# Altium footprint library Modulos.PcbLib: 4 footprints
Each footprint in its own frame and in the unit in brackets; x right, y up, seen from the top. Pads: shape width x height; smd on the part's side, far side on the other; paste and mask are expansions set on the pad; w line width, h text height; cw(c..) or ccw(c..) is an arc to the next point about the centre after c.
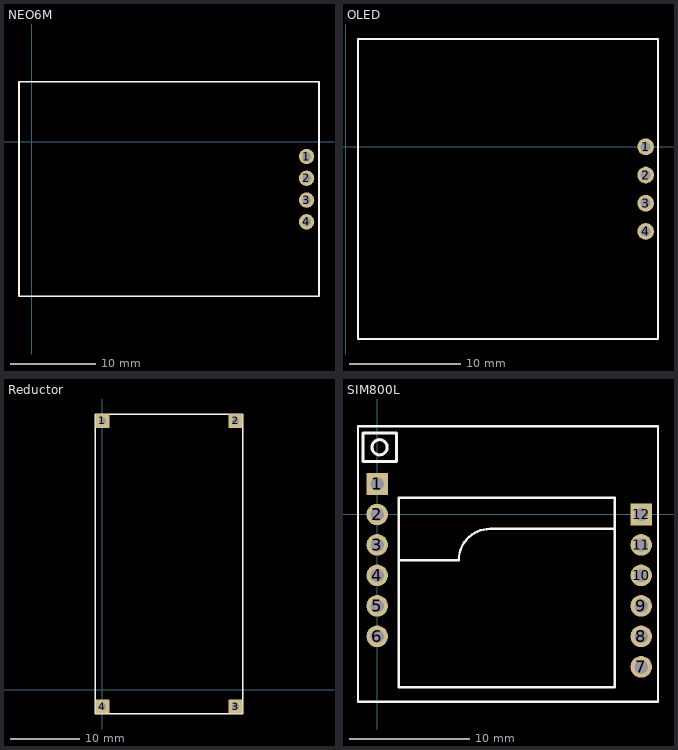
[diagram p0: the footprints below, top view; thin cyan lines are the x and y axes]

## NEO6M [mm]
pads (4):
  round 1.8 hole 1: 1(32.05,-1.71) 2(32.05,-4.25) 3(32.05,-6.79) 4(32.05,-9.33)
Top Overlay:
  lines w0.2: -1.5,7 -1.5,-18 33.5,-18 33.5,7
  lines w0.203: -1.5,7 33.5,7

## OLED [mm]
pads (4):
  round 1.5 hole 0.9: 1(27,0) 2(27,-2.54) 3(27,-5.08) 4(27,-7.62)
Top Overlay:
  lines w0.2: 1.1,9.7 1.1,-17.3 28.11,-17.3 28.11,9.7
  lines w0.203: 1.1,9.7 28.11,9.7

## Reductor [mm]
pads (4):
  rect 2x2 hole 1: 1(0,38.6) 2(19.1,38.6) 3(19.1,-2.4) 4(0,-2.4)
Top Overlay:
  lines w0.2: -1,1.45 -1,-3.457 20.1,-3.457
  lines w0.203: -1,1.45 -1,39.6 12.925,39.6 16.075,39.6 20.1,39.6 20.1,-3.457

## SIM800L [mm]
pads (12):
  rect 1.8x1.8 hole 1.1: 1(0,2.54) 12(22,0)
  round 1.8 hole 1.1: 2(0,0) 3(0,-2.54) 4(0,-5.08) 5(0,-7.62) 6(0,-10.16) 7(22,-12.7) 8(22,-10.16) 9(22,-7.62) 10(22,-5.08) 11(22,-2.54)
Top Overlay:
  circle w0.254: c0.2,5.6 r0.632
  lines w0.2: -1.6,-15.6 -1.6,-10.447 -1.6,-2.827 -1.6,1.303 ; 3.365,-15.6 23.4,-15.6 23.4,-10.979 23.4,-8.121 23.4,-4.979 23.4,-3.255 23.4,-2.04 23.4,5.64
  lines w0.203: -1.6,-15.6 3.365,-15.6 ; -1.6,1.303 -1.6,7.344 2.962,7.344 4.848,7.344 16.236,7.344 20.856,7.344 23.4,7.344 23.4,5.64 ; 1.8,-3.8 6.8,-3.8 cw(c9.4,-3.8) 9.4,-1.2 ; 10.365,-1.2 9.4,-1.2 ; 19.8,-1.2 10,-1.2 9.4,-1.2 ; 1.8,-14.4 1.8,1.4 14.5,1.4 17.875,1.4 19.8,1.4 19.8,-14.4 1.8,-14.4
  lines w0.254: -1.2,4.4 1.6,4.4 1.6,6.8 -1.2,6.8 -1.2,4.4
3D body "SIM800L v10.step": height 3.28, standoff -2.49, extent -1.7,-15.5 23.318,7.5